# EAGLE library part DRV8801RTYT (library DRV8801_ultra_librarian_old)
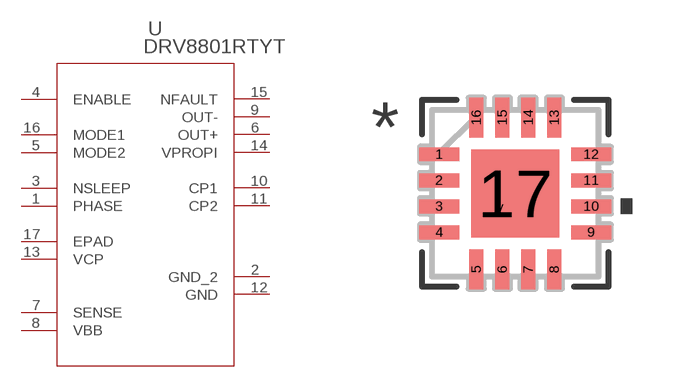
[diagram p0: symbol with the pads of RTY16; footprint RTY16]

Designator prefix U

## DRV8801RTYT (MANUFACTURER_PART_NUMBER: DRV8801RTYT; VENDOR: Texas Instruments)  [RTY16]
1  PHASE  in
2  GND_2  pwr
3  NSLEEP  in
4  ENABLE  in
5  MODE2  in
6  OUT+  out
7  SENSE  pwr
8  VBB  pwr
9  OUT-  out
10  CP1  pas
11  CP2  pas
12  GND  pwr
13  VCP  pas
14  VPROPI  out
15  NFAULT  out
16  MODE1  in
17  EPAD  pas

## Footprint RTY16 (pad centres in mm)
smd 1 x 0.35: 1 -1.9,0.975; 2 -1.9,0.325; 3 -1.9,-0.325; 4 -1.9,-0.975; 9 1.9,-0.975; 10 1.9,-0.325; 11 1.9,0.325; 12 1.9,0.975
smd 0.35 x 1: 5 -0.975,-1.9; 6 -0.325,-1.9; 7 0.325,-1.9; 8 0.975,-1.9; 13 0.975,1.9; 14 0.325,1.9; 15 -0.325,1.9; 16 -0.975,1.9
smd 2.2 x 2.2: 17 0,0
smd 0.3 x 0.3: V -0.394,-0.394